# EAGLE library part BT832X (library BT832X)
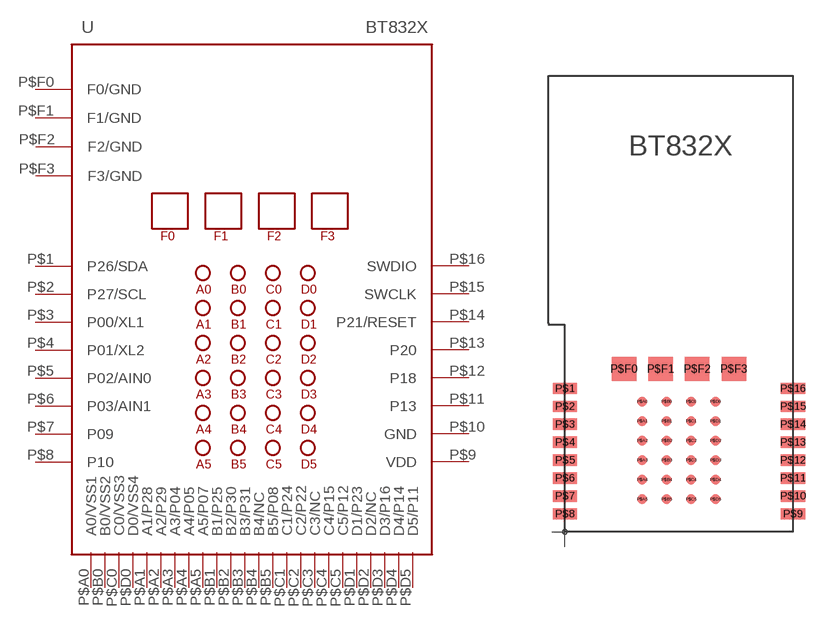
[diagram p0: symbol with the pads of BT832X; footprint BT832X]

Designator prefix U

## BT832X  [BT832X]
P$1  P26/SDA
P$2  P27/SCL
P$3  P00/XL1
P$4  P01/XL2
P$5  P02/AIN0
P$6  P03/AIN1
P$7  P09
P$8  P10
P$9  VDD
P$10  GND
P$11  P13
P$12  P18
P$13  P20
P$14  P21/RESET
P$15  SWCLK
P$16  SWDIO
P$A0  A0/VSS1
P$A1  A1/P28
P$A2  A2/P29
P$A3  A3/P04
P$A4  A4/P05
P$A5  A5/P07
P$B0  B0/VSS2
P$B1  B1/P25
P$B2  B2/P30
P$B3  B3/P31
P$B4  B4/NC
P$B5  B5/P08
P$C0  C0/VSS3
P$C1  C1/P24
P$C2  C2/P22
P$C3  C3/NC
P$C4  C4/P15
P$C5  C5/P12
P$D0  D0/VSS4
P$D1  D1/P23
P$D2  D2/NC
P$D3  D3/P16
P$D4  D4/P14
P$D5  D5/P11
P$F0  F0/GND
P$F1  F1/GND
P$F2  F2/GND
P$F3  F3/GND

## Footprint BT832X (pad centres in mm)
smd 1.5 x 0.7: P$1 0,8.8; P$2 0,7.7; P$3 0,6.6; P$4 0,5.5; P$5 0,4.4; P$6 0,3.3; P$7 0,2.2; P$8 0,1.1; P$9 14,1.1; P$10 14,2.2; P$11 14,3.3; P$12 14,4.4; P$13 14,5.5; P$14 14,6.6; P$15 14,7.7; P$16 14,8.8
smd 0.6 x 0.6: P$A0 4.75,8; P$A1 4.75,6.8; P$A2 4.75,5.6; P$A3 4.75,4.4; P$A4 4.75,3.2; P$A5 4.75,2; P$B0 6.25,8; P$B1 6.25,6.8; P$B2 6.25,5.6; P$B3 6.25,4.4; P$B4 6.25,3.2; P$B5 6.25,2; P$C0 7.75,8; P$C1 7.75,6.8; P$C2 7.75,5.6; P$C3 7.75,4.4; P$C4 7.75,3.2; P$C5 7.75,2; P$D0 9.25,8; P$D1 9.25,6.8; P$D2 9.25,5.6; P$D3 9.25,4.4; P$D4 9.25,3.2; P$D5 9.25,2
smd 1.5 x 1.5: P$F0 3.63,10; P$F1 5.88,10; P$F2 8.13,10; P$F3 10.38,10